# Altium footprint library 针式电阻.PcbLib: 22 footprints (part 2 of 2)
Each footprint in its own frame and in the unit in brackets; x right, y up, seen from the top. Pads: shape width x height; smd on the part's side, far side on the other; paste and mask are expansions set on the pad; w line width, h text height; cw(c..) or ccw(c..) is an arc to the next point about the centre after c.
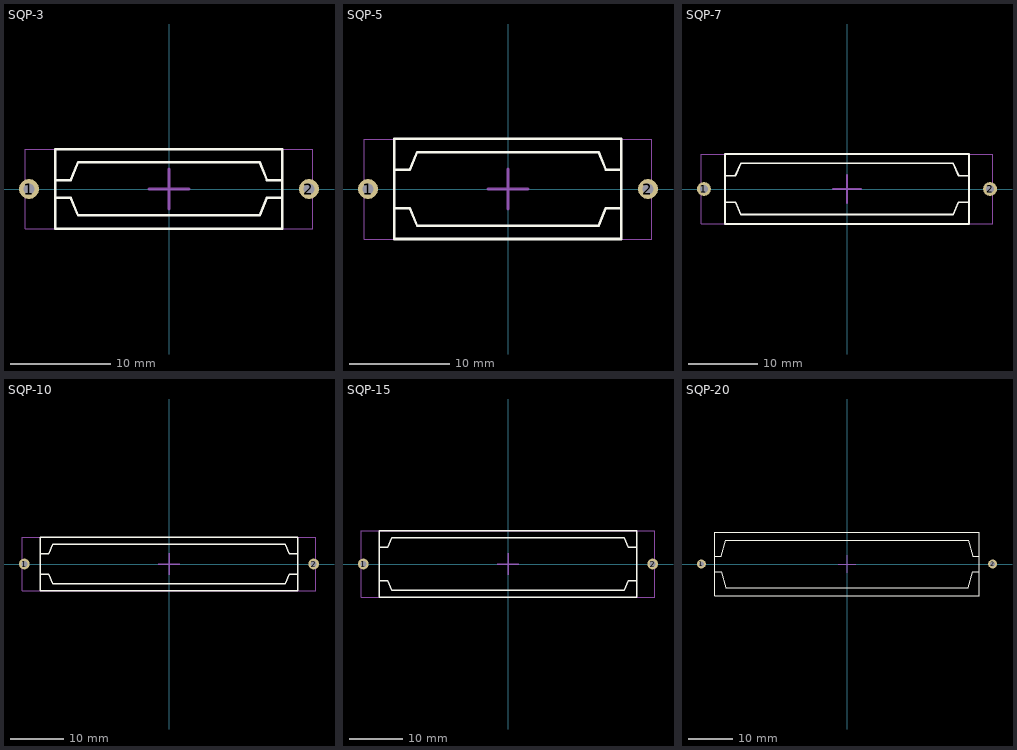
[diagram p1: the footprints below, top view; thin cyan lines are the x and y axes]

## SQP-3 [mm] "卧式水泥电阻 (3W 350V)  -55℃~ +155℃"
height 4
pads (2):
  round 2 hole 1.1: 1(-14,0) 2(14,0)
Top Overlay:
  lines w0.254: 11.321,3.988 -11.357,3.988 -11.357,0.889 ; 11.325,3.984 11.325,0.889 ; -11.357,-0.889 -11.357,-3.984 11.321,-3.984 11.325,-3.988 11.325,-0.889 ; -11.357,-0.889 -9.819,-0.889 -9.096,-2.642 9.065,-2.642 9.787,-0.889 11.325,-0.889 ; -11.357,-0.889 -11.357,0.889 ; -11.357,0.889 -9.829,0.889 -9.096,2.667 9.065,2.667 9.798,0.889 11.325,0.889 ; 11.325,-0.889 11.325,0.889
Mechanical 13:
  lines w0.1: -14.375,-4 -14.375,4 14.375,4 14.375,-4 -14.375,-4
Mechanical 15:
  lines w0.254: -2,0 0,0 ; 0,-2 0,0 ; 0,2 0,0 ; 2,0 0,0
3D body: height 8.11, standoff -4.9, extent -14.375,-4 14.375,4

## SQP-5 [mm] "卧式水泥电阻 (5W 350V)  -55℃~ +155℃"
height 9
pads (2):
  round 2 hole 1.1: 1(-14,0) 2(14,0)
Top Overlay:
  lines w0.254: 11.321,5.004 -11.357,5.004 -11.357,1.905 ; 11.325,5 11.325,1.905 ; -11.357,-1.905 -11.357,1.905 ; -11.357,-1.905 -11.357,-5 11.321,-5 11.325,-5.004 11.325,-1.905 ; -11.357,-1.905 -9.819,-1.905 -9.096,-3.658 9.065,-3.658 9.787,-1.905 11.325,-1.905 ; -11.357,1.905 -9.829,1.905 -9.096,3.683 9.065,3.683 9.798,1.905 11.325,1.905 ; 11.325,-1.905 11.325,1.905
Mechanical 13:
  lines w0.1: -14.375,-5 14.375,-5 14.375,5 -14.375,5 -14.375,-5
Mechanical 15:
  lines w0.254: -2,0 0,0 ; 0,-2 0,0 ; 0,2 0,0 ; 2,0 0,0
3D body: height 10.11, standoff -4.9, extent -14.375,-5 14.375,5

## SQP-7 [mm] "卧式水泥电阻 (7W 500V)  -55℃~ +155℃"
height 9
pads (2):
  round 2 hole 1.1: 1(-20.5,0) 2(20.5,0)
Top Overlay:
  lines w0.254: -17.5,5 17.5,5 ; -17.5,5.004 -17.5,1.905 ; -11.357,-5 11.321,-5 ; -11.357,5.004 11.321,5.004 ; 17.504,5 17.504,1.905 ; -17.5,-1.905 -15.962,-1.905 -15.239,-3.658 15.243,-3.658 15.966,-1.905 17.504,-1.905 ; -17.5,-1.905 -17.5,-5 17.5,-5 17.504,-5.004 17.504,-1.905 ; -17.5,-1.905 -17.5,1.905 ; -17.5,1.905 -15.972,1.905 -15.239,3.683 15.243,3.683 15.976,1.905 17.504,1.905 ; 17.504,-1.905 17.504,1.905
Mechanical 13:
  lines w0.1: -20.875,-5 20.875,-5 20.875,5 -20.875,5 -20.875,-5
Mechanical 15:
  lines w0.254: -2,0 0,0 ; 0,-2 0,0 ; 0,2 0,0 ; 2,0 0,0
3D body: height 9.11, standoff -4.9, extent -20.875,-5 20.875,5

## SQP-10 [mm] "卧式水泥电阻 (10W 500V)  -55℃~ +155℃"
height 9
pads (2):
  round 2 hole 1.1: 1(-27,0) 2(27,0)
Top Overlay:
  lines w0.254: -24,5.004 -24,1.905 -22.472,1.905 -21.739,3.683 21.743,3.683 22.476,1.905 24.004,1.905 24.004,5 ; -11.357,-5 11.321,-5 ; -11.357,5.004 11.321,5.004 ; -24,-5 -24,5 24,5 24,-5 ; -24,-5 24,-5 ; -24,-5 -24,-1.905 -22.462,-1.905 -21.739,-3.658 21.743,-3.658 22.466,-1.905 24.004,-1.905 24.004,-5.004 24,-5
Mechanical 13:
  lines w0.1: -27.375,-5 27.375,-5 27.375,5 -27.375,5 -27.375,-5
Mechanical 15:
  lines w0.254: -2,0 0,0 ; 0,-2 0,0 ; 0,2 0,0 ; 2,0 0,0
3D body: height 9.61, standoff -4.4, extent -27.375,-5 27.375,5

## SQP-15 [mm] "卧式水泥电阻 (15W 500V)  -55℃~ +155℃"
height 11.5
pads (2):
  round 2 hole 1.1: 1(-27,0) 2(27,0)
Top Overlay:
  lines w0.254: 21.736,-4.908 -21.739,-4.908 -22.462,-3.155 -24,-3.155 -24,-6.25 ; 21.736,4.929 -21.739,4.929 -22.472,3.151 -24,3.151 -24,6.25 ; 21.739,-4.904 22.462,-3.151 24,-3.151 24,-6.25 ; 21.739,4.933 22.472,3.155 24,3.155 24,6.25 ; 23.996,-6.246 24,-6.25 ; -24,-6.25 -24,6.25 ; -24,-6.25 24,-6.25 ; -24,6.25 24,6.25 ; 24,-6.25 24,6.25
Mechanical 13:
  lines w0.1: 27.375,6.25 -27.375,6.25 -27.375,-6.25 27.375,-6.25 27.375,6.25 ; 27.375,6.25 27.375,6.25
Mechanical 15:
  lines w0.254: -2,0 0,0 ; 0,-2 0,0 ; 0,2 0,0 ; 2,0 0,0
3D body: height 11.76, standoff -4.75, extent -27.375,-6.25 27.375,6.25

## SQP-20 [mm] "卧式水泥电阻 (20W 500V)  -55℃~ +155℃"
height 13.5
pads (2):
  round 2 hole 1.1: 1(-33,0) 2(33,0)
Top Overlay:
  lines w0.254: -30,-1.778 -28.448,-1.778 -27.432,-5.334 27.432,-5.334 28.448,-1.778 30,-1.778 ; -30,1.778 -28.448,1.778 -27.432,5.334 27.432,5.334 28.448,1.778 30,1.778 ; -30,-7.25 -30,7.25 30,7.25 30,-7.25 -30,-7.25
Mechanical 15:
  lines w0.254: -2,0 0,0 ; 0,-2 0,0 ; 0,2 0,0 ; 2,0 0,0
3D body: height 13.76, standoff -4.75, extent -33.146,-6.894 33.604,7.606